# Altium schematic symbol library BZT52B3V6S.SchLib: 1 symbol
Pins are listed as number, name and electrical type; pins without a type are passive.

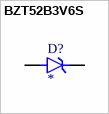
[diagram p0: symbol BZT52B3V6S]

## BZT52B3V6S
designator D?
MF: {'manufacturer': u'Taiwan Semiconductor'}; MP: BZT52B3V6S; Package: None; Price: None; Value: *; Availability: Unavailable
footprint DIO_BZT52B3V6S
pins: A, C K